# EAGLE library part FLIPPER-GPIO-10 (library flipper-gpio)
Flipper Zero 10-pin GPIO connector See Measures layer in Board view for mechanical dimensions of the board outline and how it relates to this header. The Flipper_GPIO_Dimension (100) layer in Board view contains a pre-made outline that matches the Flipper Zero documentation. This can be included as the board outline, but be sure that these exactly line up with the existing outline! See Info layer in Schematic view for table of all of the pin MUX settings.
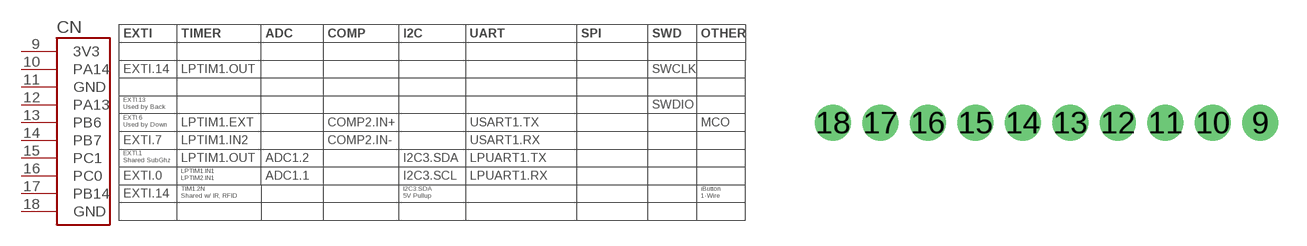
[diagram p4: symbol with the pads of FLIPPER-GPIO-10; footprint FLIPPER-GPIO-10]

Designator prefix CN

## FLIPPER-GPIO-10  [FLIPPER-GPIO-10]
9  3V3
10  PA14
11  GND
12  PA13
13  PB6
14  PB7
15  PC1
16  PC0
17  PB14
18  GND

## Footprint FLIPPER-GPIO-10 (pad centres in mm)
Flipper Zero 10-pin GPIO connector See Measures layer for mechanical dimensions of the board outline and how it relates to this header. The Flipper_GPIO_Dimension (100) layer contains a pre-made outline that matches the Flipper Zero documentation. This can be included as the board outline, but be sure that these exactly line up with the existing outline!
drill 1.016 pad 1.93: 9 22.86,0; 10 20.32,0; 11 17.78,0; 12 15.24,0; 13 12.7,0; 14 10.16,0; 15 7.62,0; 16 5.08,0; 17 2.54,0; 18 0,0